# EAGLE library part MPU9250 (library ahrs)
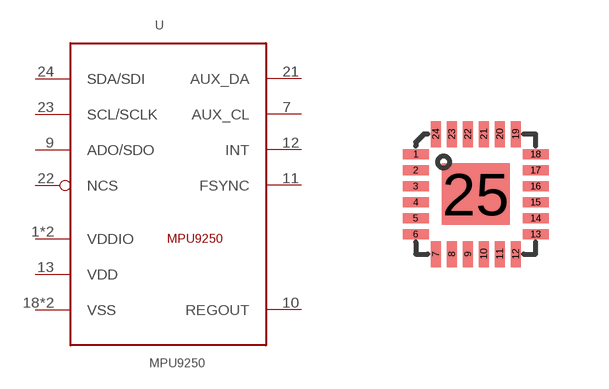
[diagram p10: symbol with the pads of QFN-3-3-1; footprint QFN-3-3-1]

Designator prefix -

## MPU9250  [QFN-3-3-1]
1  VDDIO
7  AUX_CL
8  VDDIO
9  ADO/SDO
10  REGOUT
11  FSYNC
12  INT
13  VDD
18  VSS
20  VSS
21  AUX_DA
22  NCS
23  SCL/SCLK
24  SDA/SDI

## Footprint QFN-3-3-1 (pad centres in mm)
smd 0.65 x 0.25: 1 -1.5,1; 2 -1.5,0.6; 3 -1.5,0.2; 4 -1.5,-0.2; 5 -1.5,-0.6; 6 -1.5,-1; 13 1.5,-1; 14 1.5,-0.6; 15 1.5,-0.2; 16 1.5,0.2; 17 1.5,0.6; 18 1.5,1
smd 0.25 x 0.65: 7 -1,-1.5; 8 -0.6,-1.5; 9 -0.2,-1.5; 10 0.2,-1.5; 11 0.6,-1.5; 12 1,-1.5; 19 1,1.5; 20 0.6,1.5; 21 0.2,1.5; 22 -0.2,1.5; 23 -0.6,1.5; 24 -1,1.5
smd 1.7 x 1.54: 25 0,0